# EAGLE library part CONNECTOR-8-M5STICKC (library eagle-library-engr-245-s22)
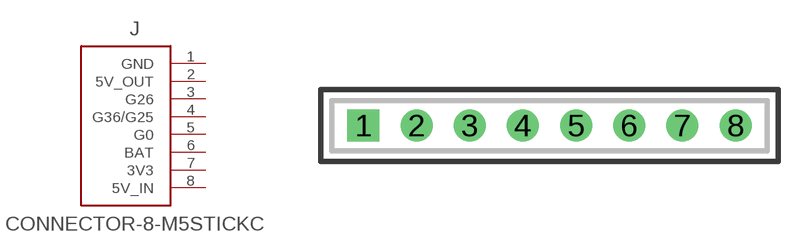
[diagram p24: symbol with the pads of ESQ-108-XX-X-S; footprint ESQ-108-XX-X-S]

Designator prefix J

## CONNECTOR-8-M5STICKC  [ESQ-108-XX-X-S]
1  GND
2  5V_OUT
3  G26
4  G36/G25
5  G0
6  BAT
7  3V3
8  5V_IN

## Footprint ESQ-108-XX-X-S (pad centres in mm)
drill 1.016 pad 1.524 square: 1 0,0
drill 1.016 pad 1.524: 2 2.54,0; 3 5.08,0; 4 7.62,0; 5 10.16,0; 6 12.7,0; 7 15.24,0; 8 17.78,0